# EAGLE library part SCDA1A0900 (library con-alps)
SD Memory Connector
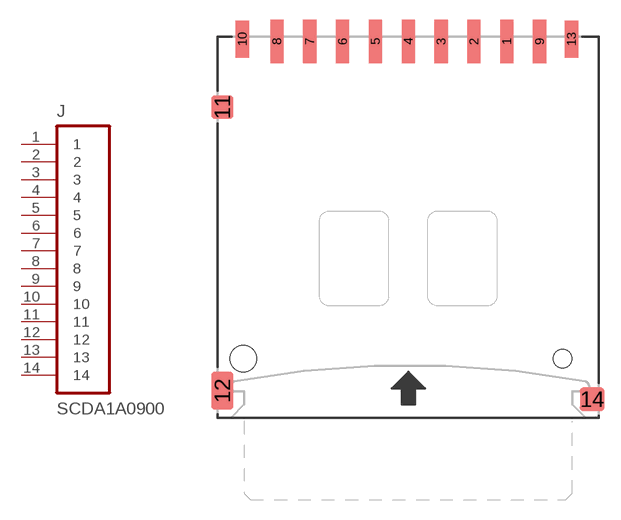
[diagram p0: symbol with the pads of SCDA1A0900; footprint SCDA1A0900]

Designator prefix J

## SCDA1A0900  [SCDA1A0900]
1  1
2  2
3  3
4  4
5  5
6  6
7  7
8  8
9  9
10  10
11  11
12  12
13  13  nc
14  14

## Footprint SCDA1A0900 (pad centres in mm)
SCDA Series, ALPS SDMemory Card connector
smd 1 x 3.3: 1 -4.25,24.15; 2 -6.75,24.15; 3 -9.25,24.15; 4 -11.75,24.15; 5 -14.25,24.15; 6 -16.75,24.15; 7 -19.25,24.15; 8 -21.75,24.15; 9 -1.75,24.15
smd 1 x 2.8: 10 -24.38,24.325; 13 0.675,24.325
smd 1.7 x 1.8: 11 -25.9,19.15
smd 1.7 x 2.9: 12 -25.9,-2.45
smd 1.9 x 1.8: 14 2.25,-3.1
hole 1.4 at 0,0
hole 2 at -24.3,0